# EAGLE library part ESP32_DEV_BOARD (library Board-Ibnu)
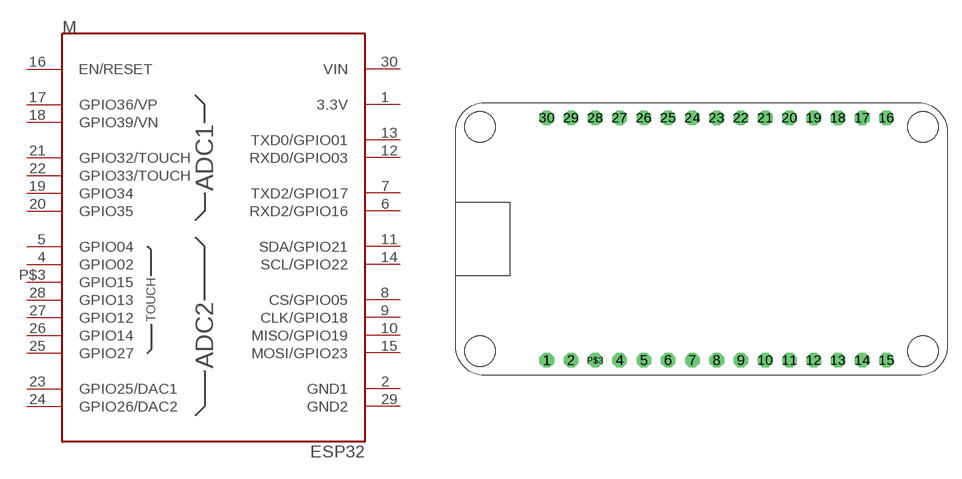
[diagram p3: symbol with the pads of ESP32_DEV_MODULE; footprint ESP32_DEV_MODULE]

Designator prefix M

## ESP32_DEV_BOARD  [ESP32_DEV_MODULE]
1  3.3V
2  GND1
4  GPIO02
5  GPIO04
6  RXD2/GPIO16
7  TXD2/GPIO17
8  CS/GPIO05
9  CLK/GPIO18
10  MISO/GPIO19
11  SDA/GPIO21
12  RXD0/GPIO03
13  TXD0/GPIO01
14  SCL/GPIO22
15  MOSI/GPIO23
16  EN/RESET
17  GPIO36/VP
18  GPIO39/VN
19  GPIO34
20  GPIO35
21  GPIO32/TOUCH
22  GPIO33/TOUCH
23  GPIO25/DAC1
24  GPIO26/DAC2
25  GPIO27
26  GPIO14
27  GPIO12
28  GPIO13
29  GND2
30  VIN
P$3  GPIO15

## Footprint ESP32_DEV_MODULE (pad centres in mm)
drill 0.9 pad 1.54 octagon: 1 -17.78,-12.7; 2 -15.24,-12.7; 4 -10.16,-12.7; 5 -7.62,-12.7; 6 -5.08,-12.7; 7 -2.54,-12.7; 8 0,-12.7; 9 2.54,-12.7; 10 5.08,-12.7; 11 7.62,-12.7; 12 10.16,-12.7; 13 12.7,-12.7; 14 15.24,-12.7; 15 17.78,-12.7; 16 17.78,12.7; 17 15.24,12.7; 18 12.7,12.7; 19 10.16,12.7; 20 7.62,12.7; 21 5.08,12.7; 22 2.54,12.7; 23 0,12.7; 24 -2.54,12.7; 25 -5.08,12.7; 26 -7.62,12.7; 27 -10.16,12.7; 28 -12.7,12.7; 29 -15.24,12.7; 30 -17.78,12.7; P$3 -12.7,-12.7
hole 3.2 at 21.59,-11.748
hole 3.2 at 21.59,11.748
hole 3.2 at -24.765,-11.748
hole 3.2 at -24.765,11.748